# Altium integrated library National Semiconductor MiscPower.IntLib: 1552 symbols (part 25 of 43)
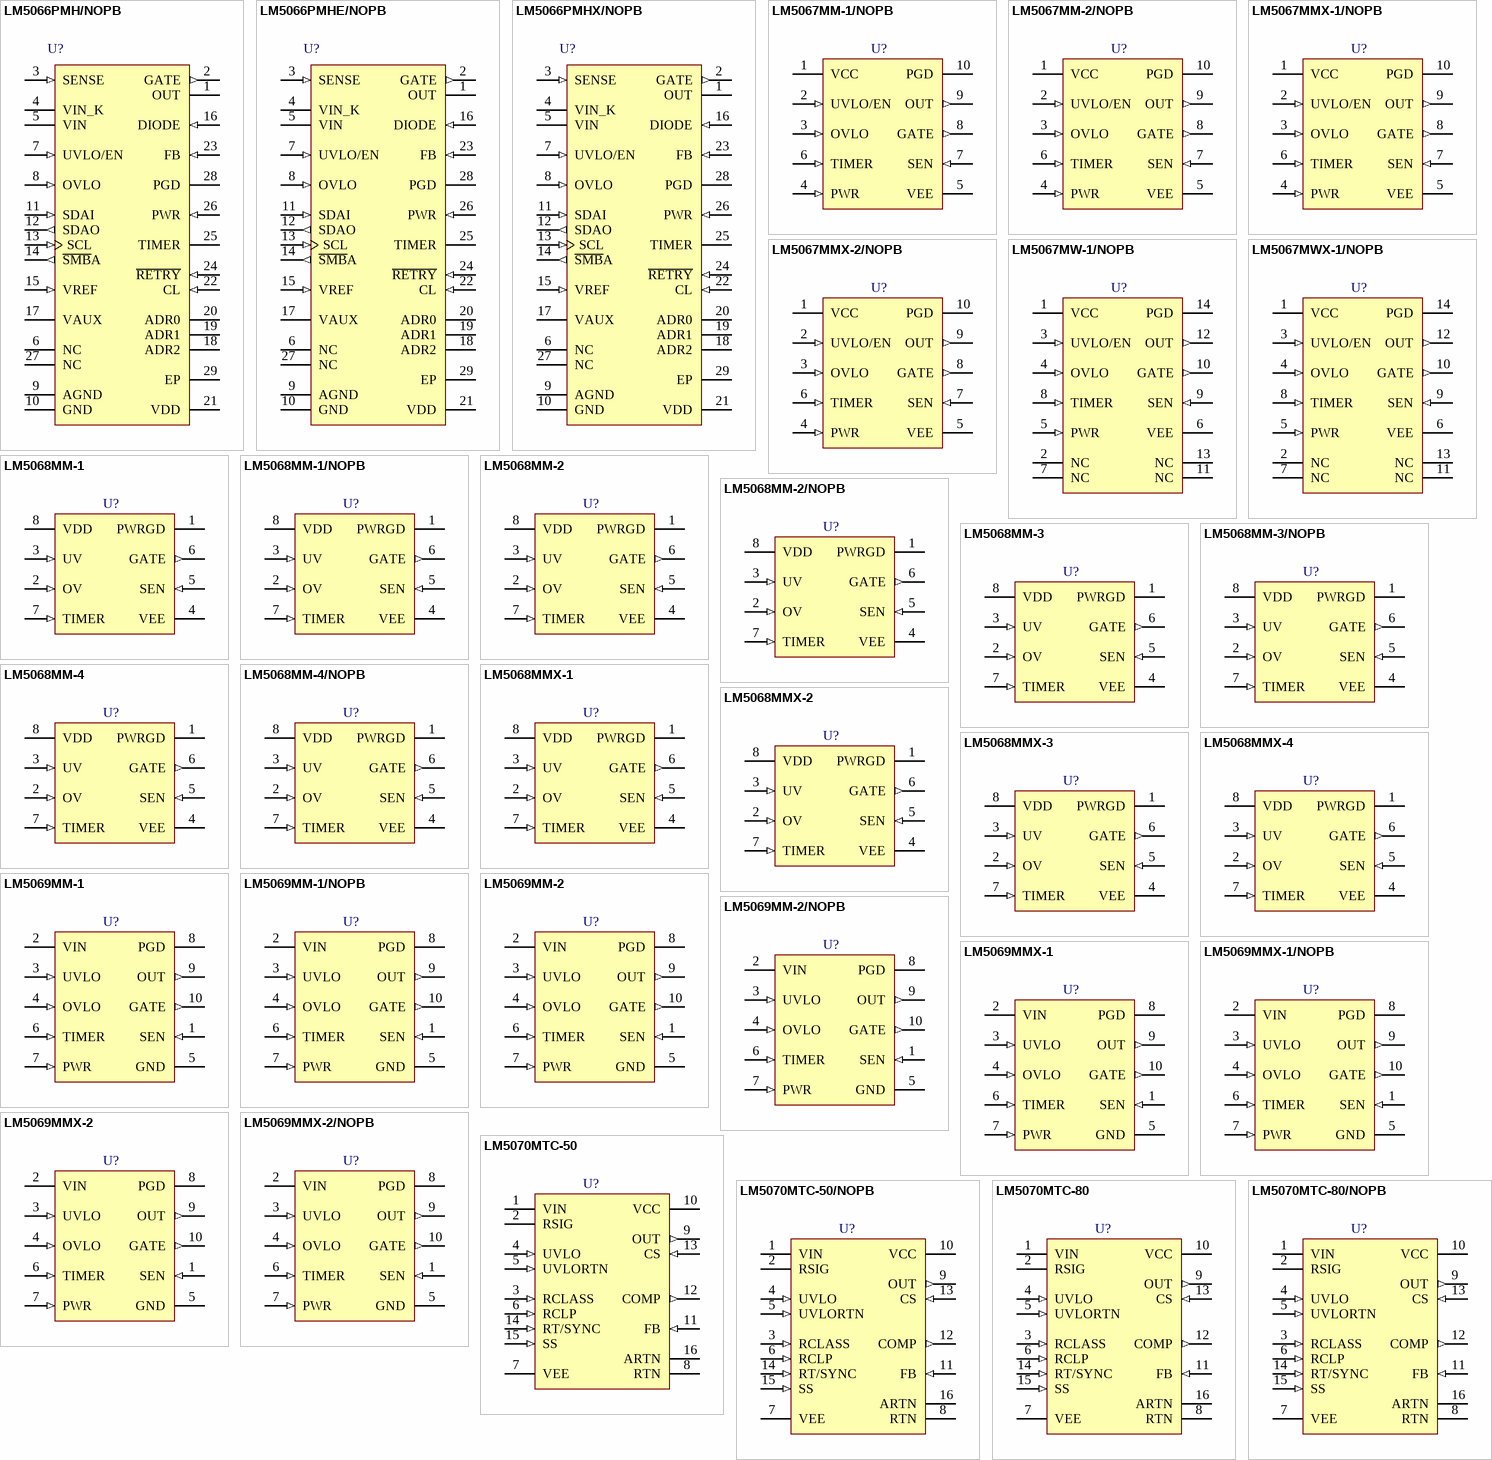
[diagram p81: symbols LM5066PMH/NOPB to LM5070MTC-80/NOPB]

## LM5069MM-2/NOPB
designator U?
Positive High Voltage Hot Swap / Inrush Current Controller with Power Limiting, 10-pin MSOP, Pb-Free; PartNumber: LM5069MM-2/NOPB; Manufacturer: National Semiconductor; PackageTopMarking: ZXTT*SNBB; PowerWise: N; CompType: MiscPower; High-Reliability: Y; DatasheetVersion: Mar-2008; PackageVersion: revB, Jul-2003; PackageReference: MUB10A; PackageDescription: Mini-SO, Molded, .118 x .118 x .034in Body, 10 Lead, .0197in Pitch; RoHS: Y; PinCount: 10; Code_JEDEC: MO-187-BA; ComponentLink1Description: Manufacturer URL; ComponentLink1URL: http://www.national.com/; ComponentLink2Description: LM5069 Datasheet; ComponentLink2URL: http://www.national.com/ds/LM/LM5069.pdf; ComponentLink3Description: LM5069 Web Page; ComponentLink3URL: http://www.national.com/pf/LM/LM5069.html; ComponentLink4Description: MUB10A Package Page; ComponentLink4URL: http://www.national.com/packaging/folders/mub10a.html
footprint MUB10A_N (TSSOP, 10-Leads, Body 3x3mm, Pitch 0.5mm, IPC Medium Density)
footprint MUB10A_L (TSSOP, 10-Leads, Body 3x3mm, Pitch 0.5mm, IPC High Density)
footprint MUB10A_M (TSSOP, 10-Leads, Body 3x3mm, Pitch 0.5mm, IPC Low Density)
pins: 1 SEN (in), 2 VIN (power), 3 UVLO (in), 4 OVLO (in), 5 GND (power), 6 TIMER (in), 7 PWR (in), 8 PGD (oc), 9 OUT (out), 10 GATE (out)

## LM5069MMX-1
designator U?
Positive High Voltage Hot Swap / Inrush Current Controller with Power Limiting, 10-pin MSOP; PartNumber: LM5069MMX-1; Manufacturer: National Semiconductor; PackageTopMarking: ZXTT*SNAB; PowerWise: N; CompType: MiscPower; High-Reliability: Y; DatasheetVersion: Mar-2008; PackageVersion: revB, Jul-2003; PackageReference: MUB10A; PackageDescription: Mini-SO, Molded, .118 x .118 x .034in Body, 10 Lead, .0197in Pitch; RoHS: N; PinCount: 10; Code_JEDEC: MO-187-BA; ComponentLink1Description: Manufacturer URL; ComponentLink1URL: http://www.national.com/; ComponentLink2Description: LM5069 Datasheet; ComponentLink2URL: http://www.national.com/ds/LM/LM5069.pdf; ComponentLink3Description: LM5069 Web Page; ComponentLink3URL: http://www.national.com/pf/LM/LM5069.html; ComponentLink4Description: MUB10A Package Page; ComponentLink4URL: http://www.national.com/packaging/folders/mub10a.html
footprint MUB10A_N (TSSOP, 10-Leads, Body 3x3mm, Pitch 0.5mm, IPC Medium Density)
footprint MUB10A_L (TSSOP, 10-Leads, Body 3x3mm, Pitch 0.5mm, IPC High Density)
footprint MUB10A_M (TSSOP, 10-Leads, Body 3x3mm, Pitch 0.5mm, IPC Low Density)
pins: 1 SEN (in), 2 VIN (power), 3 UVLO (in), 4 OVLO (in), 5 GND (power), 6 TIMER (in), 7 PWR (in), 8 PGD (oc), 9 OUT (out), 10 GATE (out)

## LM5069MMX-1/NOPB
designator U?
Positive High Voltage Hot Swap / Inrush Current Controller with Power Limiting, 10-pin MSOP, Pb-Free; PartNumber: LM5069MMX-1/NOPB; Manufacturer: National Semiconductor; PackageTopMarking: ZXTT*SNAB; PowerWise: N; CompType: MiscPower; High-Reliability: Y; DatasheetVersion: Mar-2008; PackageVersion: revB, Jul-2003; PackageReference: MUB10A; PackageDescription: Mini-SO, Molded, .118 x .118 x .034in Body, 10 Lead, .0197in Pitch; RoHS: Y; PinCount: 10; Code_JEDEC: MO-187-BA; ComponentLink1Description: Manufacturer URL; ComponentLink1URL: http://www.national.com/; ComponentLink2Description: LM5069 Datasheet; ComponentLink2URL: http://www.national.com/ds/LM/LM5069.pdf; ComponentLink3Description: LM5069 Web Page; ComponentLink3URL: http://www.national.com/pf/LM/LM5069.html; ComponentLink4Description: MUB10A Package Page; ComponentLink4URL: http://www.national.com/packaging/folders/mub10a.html
footprint MUB10A_N (TSSOP, 10-Leads, Body 3x3mm, Pitch 0.5mm, IPC Medium Density)
footprint MUB10A_L (TSSOP, 10-Leads, Body 3x3mm, Pitch 0.5mm, IPC High Density)
footprint MUB10A_M (TSSOP, 10-Leads, Body 3x3mm, Pitch 0.5mm, IPC Low Density)
pins: 1 SEN (in), 2 VIN (power), 3 UVLO (in), 4 OVLO (in), 5 GND (power), 6 TIMER (in), 7 PWR (in), 8 PGD (oc), 9 OUT (out), 10 GATE (out)

## LM5069MMX-2
designator U?
Positive High Voltage Hot Swap / Inrush Current Controller with Power Limiting, 10-pin MSOP; PartNumber: LM5069MMX-2; Manufacturer: National Semiconductor; PackageTopMarking: ZXTT*SNBB; PowerWise: N; CompType: MiscPower; High-Reliability: Y; DatasheetVersion: Mar-2008; PackageVersion: revB, Jul-2003; PackageReference: MUB10A; PackageDescription: Mini-SO, Molded, .118 x .118 x .034in Body, 10 Lead, .0197in Pitch; RoHS: N; PinCount: 10; Code_JEDEC: MO-187-BA; ComponentLink1Description: Manufacturer URL; ComponentLink1URL: http://www.national.com/; ComponentLink2Description: LM5069 Datasheet; ComponentLink2URL: http://www.national.com/ds/LM/LM5069.pdf; ComponentLink3Description: LM5069 Web Page; ComponentLink3URL: http://www.national.com/pf/LM/LM5069.html; ComponentLink4Description: MUB10A Package Page; ComponentLink4URL: http://www.national.com/packaging/folders/mub10a.html
footprint MUB10A_N (TSSOP, 10-Leads, Body 3x3mm, Pitch 0.5mm, IPC Medium Density)
footprint MUB10A_L (TSSOP, 10-Leads, Body 3x3mm, Pitch 0.5mm, IPC High Density)
footprint MUB10A_M (TSSOP, 10-Leads, Body 3x3mm, Pitch 0.5mm, IPC Low Density)
pins: 1 SEN (in), 2 VIN (power), 3 UVLO (in), 4 OVLO (in), 5 GND (power), 6 TIMER (in), 7 PWR (in), 8 PGD (oc), 9 OUT (out), 10 GATE (out)

## LM5069MMX-2/NOPB
designator U?
Positive High Voltage Hot Swap / Inrush Current Controller with Power Limiting, 10-pin MSOP, Pb-Free; PartNumber: LM5069MMX-2/NOPB; Manufacturer: National Semiconductor; PackageTopMarking: ZXTT*SNBB; PowerWise: N; CompType: MiscPower; High-Reliability: Y; DatasheetVersion: Mar-2008; PackageVersion: revB, Jul-2003; PackageReference: MUB10A; PackageDescription: Mini-SO, Molded, .118 x .118 x .034in Body, 10 Lead, .0197in Pitch; RoHS: Y; PinCount: 10; Code_JEDEC: MO-187-BA; ComponentLink1Description: Manufacturer URL; ComponentLink1URL: http://www.national.com/; ComponentLink2Description: LM5069 Datasheet; ComponentLink2URL: http://www.national.com/ds/LM/LM5069.pdf; ComponentLink3Description: LM5069 Web Page; ComponentLink3URL: http://www.national.com/pf/LM/LM5069.html; ComponentLink4Description: MUB10A Package Page; ComponentLink4URL: http://www.national.com/packaging/folders/mub10a.html
footprint MUB10A_N (TSSOP, 10-Leads, Body 3x3mm, Pitch 0.5mm, IPC Medium Density)
footprint MUB10A_L (TSSOP, 10-Leads, Body 3x3mm, Pitch 0.5mm, IPC High Density)
footprint MUB10A_M (TSSOP, 10-Leads, Body 3x3mm, Pitch 0.5mm, IPC Low Density)
pins: 1 SEN (in), 2 VIN (power), 3 UVLO (in), 4 OVLO (in), 5 GND (power), 6 TIMER (in), 7 PWR (in), 8 PGD (oc), 9 OUT (out), 10 GATE (out)

## LM5070MTC-50
designator U?
Integrated Power Over Ethernet PD Interface and PWM Controller, 16-pin TSSOP; PartNumber: LM5070MTC-50; Manufacturer: National Semiconductor; PackageTopMarking: NSUZXYTT*5070M*TC-50; PowerWise: Y; CompType: MiscPower; DatasheetVersion: Apr-2006; PackageVersion: revD, Jun-2003; PackageReference: MTC16; PackageDescription: Molded TSSOP, Jedec, 5 x 4.4 x 0.9mm Body, 16 Lead, 0.65mm Pitch; RoHS: N; PinCount: 16; High-Reliability: Y; Code_JEDEC: MO-153-AB; ComponentLink1Description: Manufacturer URL; ComponentLink1URL: http://www.national.com/; ComponentLink2Description: LM5070 Datasheet; ComponentLink2URL: http://www.national.com/ds/LM/LM5070.pdf; ComponentLink3Description: LM5070 Web Page; ComponentLink3URL: http://www.national.com/pf/LM/LM5070.html; ComponentLink4Description: MTC16 Package Page; ComponentLink4URL: http://www.national.com/packaging/folders/mtc16.html
footprint MTC16_N (TSOP, 16-Leads, Body 5x4.4mm, Pitch 0.65mm, IPC Medium Density)
footprint MTC16_L (TSOP, 16-Leads, Body 5x4.4mm, Pitch 0.65mm, IPC High Density)
footprint MTC16_M (TSOP, 16-Leads, Body 5x4.4mm, Pitch 0.65mm, IPC Low Density)
pins: 1 VIN (power) "System high potential input.", 2 RSIG "Signature resistor pin.", 3 RCLASS (in) "Classification resistor pin.", 4 UVLO (in) "Line under-voltage lockout.", 5 UVLORTN (in) "Return for the external UVLO resistors.", 6 RCLP (in) "Current limit programming pin.", 7 VEE (power) "System low potential input.", 8 RTN (power) "System return for the PWM converter.", 9 OUT (out) "Output of the PWM controller.", 10 VCC (power) "Output of the internal high voltage series pass regulator. Regulated output voltage is nominally 7.8V.", 11 FB (in) "Feedback signal.", 12 COMP (out) "The output of the error amplifier and input to the Pulse Width Modulator.", 13 CS (in) "Current sense input.", 14 RT/SYNC (in) "Oscillator timing resistor pin and synchronization input.", 15 SS (in) "Soft-start input.", 16 ARTN (power) "Analog PWM supply return."

## LM5070MTC-50/NOPB
designator U?
Integrated Power Over Ethernet PD Interface and PWM Controller, 16-pin TSSOP, Pb-Free; PartNumber: LM5070MTC-50/NOPB; Manufacturer: National Semiconductor; PackageTopMarking: NSUZXYTT*5070M*TC-50; PowerWise: Y; CompType: MiscPower; DatasheetVersion: Apr-2006; PackageVersion: revD, Jun-2003; PackageReference: MTC16; PackageDescription: Molded TSSOP, Jedec, 5 x 4.4 x 0.9mm Body, 16 Lead, 0.65mm Pitch; RoHS: Y; PinCount: 16; High-Reliability: Y; Code_JEDEC: MO-153-AB; ComponentLink1Description: Manufacturer URL; ComponentLink1URL: http://www.national.com/; ComponentLink2Description: LM5070 Datasheet; ComponentLink2URL: http://www.national.com/ds/LM/LM5070.pdf; ComponentLink3Description: LM5070 Web Page; ComponentLink3URL: http://www.national.com/pf/LM/LM5070.html; ComponentLink4Description: MTC16 Package Page; ComponentLink4URL: http://www.national.com/packaging/folders/mtc16.html
footprint MTC16_N (TSOP, 16-Leads, Body 5x4.4mm, Pitch 0.65mm, IPC Medium Density)
footprint MTC16_L (TSOP, 16-Leads, Body 5x4.4mm, Pitch 0.65mm, IPC High Density)
footprint MTC16_M (TSOP, 16-Leads, Body 5x4.4mm, Pitch 0.65mm, IPC Low Density)
pins: 1 VIN (power) "System high potential input.", 2 RSIG "Signature resistor pin.", 3 RCLASS (in) "Classification resistor pin.", 4 UVLO (in) "Line under-voltage lockout.", 5 UVLORTN (in) "Return for the external UVLO resistors.", 6 RCLP (in) "Current limit programming pin.", 7 VEE (power) "System low potential input.", 8 RTN (power) "System return for the PWM converter.", 9 OUT (out) "Output of the PWM controller.", 10 VCC (power) "Output of the internal high voltage series pass regulator. Regulated output voltage is nominally 7.8V.", 11 FB (in) "Feedback signal.", 12 COMP (out) "The output of the error amplifier and input to the Pulse Width Modulator.", 13 CS (in) "Current sense input.", 14 RT/SYNC (in) "Oscillator timing resistor pin and synchronization input.", 15 SS (in) "Soft-start input.", 16 ARTN (power) "Analog PWM supply return."

## LM5070MTC-80
designator U?
Integrated Power Over Ethernet PD Interface and PWM Controller, 16-pin TSSOP; PartNumber: LM5070MTC-80; Manufacturer: National Semiconductor; PackageTopMarking: NSUZXYTT*5070M*TC-80; PowerWise: Y; CompType: MiscPower; DatasheetVersion: Apr-2006; PackageVersion: revD, Jun-2003; PackageReference: MTC16; PackageDescription: Molded TSSOP, Jedec, 5 x 4.4 x 0.9mm Body, 16 Lead, 0.65mm Pitch; RoHS: N; PinCount: 16; High-Reliability: Y; Code_JEDEC: MO-153-AB; ComponentLink1Description: Manufacturer URL; ComponentLink1URL: http://www.national.com/; ComponentLink2Description: LM5070 Datasheet; ComponentLink2URL: http://www.national.com/ds/LM/LM5070.pdf; ComponentLink3Description: LM5070 Web Page; ComponentLink3URL: http://www.national.com/pf/LM/LM5070.html; ComponentLink4Description: MTC16 Package Page; ComponentLink4URL: http://www.national.com/packaging/folders/mtc16.html
footprint MTC16_N (TSOP, 16-Leads, Body 5x4.4mm, Pitch 0.65mm, IPC Medium Density)
footprint MTC16_L (TSOP, 16-Leads, Body 5x4.4mm, Pitch 0.65mm, IPC High Density)
footprint MTC16_M (TSOP, 16-Leads, Body 5x4.4mm, Pitch 0.65mm, IPC Low Density)
pins: 1 VIN (power) "System high potential input.", 2 RSIG "Signature resistor pin.", 3 RCLASS (in) "Classification resistor pin.", 4 UVLO (in) "Line under-voltage lockout.", 5 UVLORTN (in) "Return for the external UVLO resistors.", 6 RCLP (in) "Current limit programming pin.", 7 VEE (power) "System low potential input.", 8 RTN (power) "System return for the PWM converter.", 9 OUT (out) "Output of the PWM controller.", 10 VCC (power) "Output of the internal high voltage series pass regulator. Regulated output voltage is nominally 7.8V.", 11 FB (in) "Feedback signal.", 12 COMP (out) "The output of the error amplifier and input to the Pulse Width Modulator.", 13 CS (in) "Current sense input.", 14 RT/SYNC (in) "Oscillator timing resistor pin and synchronization input.", 15 SS (in) "Soft-start input.", 16 ARTN (power) "Analog PWM supply return."

## LM5070MTC-80/NOPB
designator U?
Integrated Power Over Ethernet PD Interface and PWM Controller, 16-pin TSSOP, Pb-Free; PartNumber: LM5070MTC-80/NOPB; Manufacturer: National Semiconductor; PackageTopMarking: NSUZXYTT*5070M*TC-80; PowerWise: Y; CompType: MiscPower; DatasheetVersion: Apr-2006; PackageVersion: revD, Jun-2003; PackageReference: MTC16; PackageDescription: Molded TSSOP, Jedec, 5 x 4.4 x 0.9mm Body, 16 Lead, 0.65mm Pitch; RoHS: Y; PinCount: 16; High-Reliability: Y; Code_JEDEC: MO-153-AB; ComponentLink1Description: Manufacturer URL; ComponentLink1URL: http://www.national.com/; ComponentLink2Description: LM5070 Datasheet; ComponentLink2URL: http://www.national.com/ds/LM/LM5070.pdf; ComponentLink3Description: LM5070 Web Page; ComponentLink3URL: http://www.national.com/pf/LM/LM5070.html; ComponentLink4Description: MTC16 Package Page; ComponentLink4URL: http://www.national.com/packaging/folders/mtc16.html
footprint MTC16_N (TSOP, 16-Leads, Body 5x4.4mm, Pitch 0.65mm, IPC Medium Density)
footprint MTC16_L (TSOP, 16-Leads, Body 5x4.4mm, Pitch 0.65mm, IPC High Density)
footprint MTC16_M (TSOP, 16-Leads, Body 5x4.4mm, Pitch 0.65mm, IPC Low Density)
pins: 1 VIN (power) "System high potential input.", 2 RSIG "Signature resistor pin.", 3 RCLASS (in) "Classification resistor pin.", 4 UVLO (in) "Line under-voltage lockout.", 5 UVLORTN (in) "Return for the external UVLO resistors.", 6 RCLP (in) "Current limit programming pin.", 7 VEE (power) "System low potential input.", 8 RTN (power) "System return for the PWM converter.", 9 OUT (out) "Output of the PWM controller.", 10 VCC (power) "Output of the internal high voltage series pass regulator. Regulated output voltage is nominally 7.8V.", 11 FB (in) "Feedback signal.", 12 COMP (out) "The output of the error amplifier and input to the Pulse Width Modulator.", 13 CS (in) "Current sense input.", 14 RT/SYNC (in) "Oscillator timing resistor pin and synchronization input.", 15 SS (in) "Soft-start input.", 16 ARTN (power) "Analog PWM supply return."

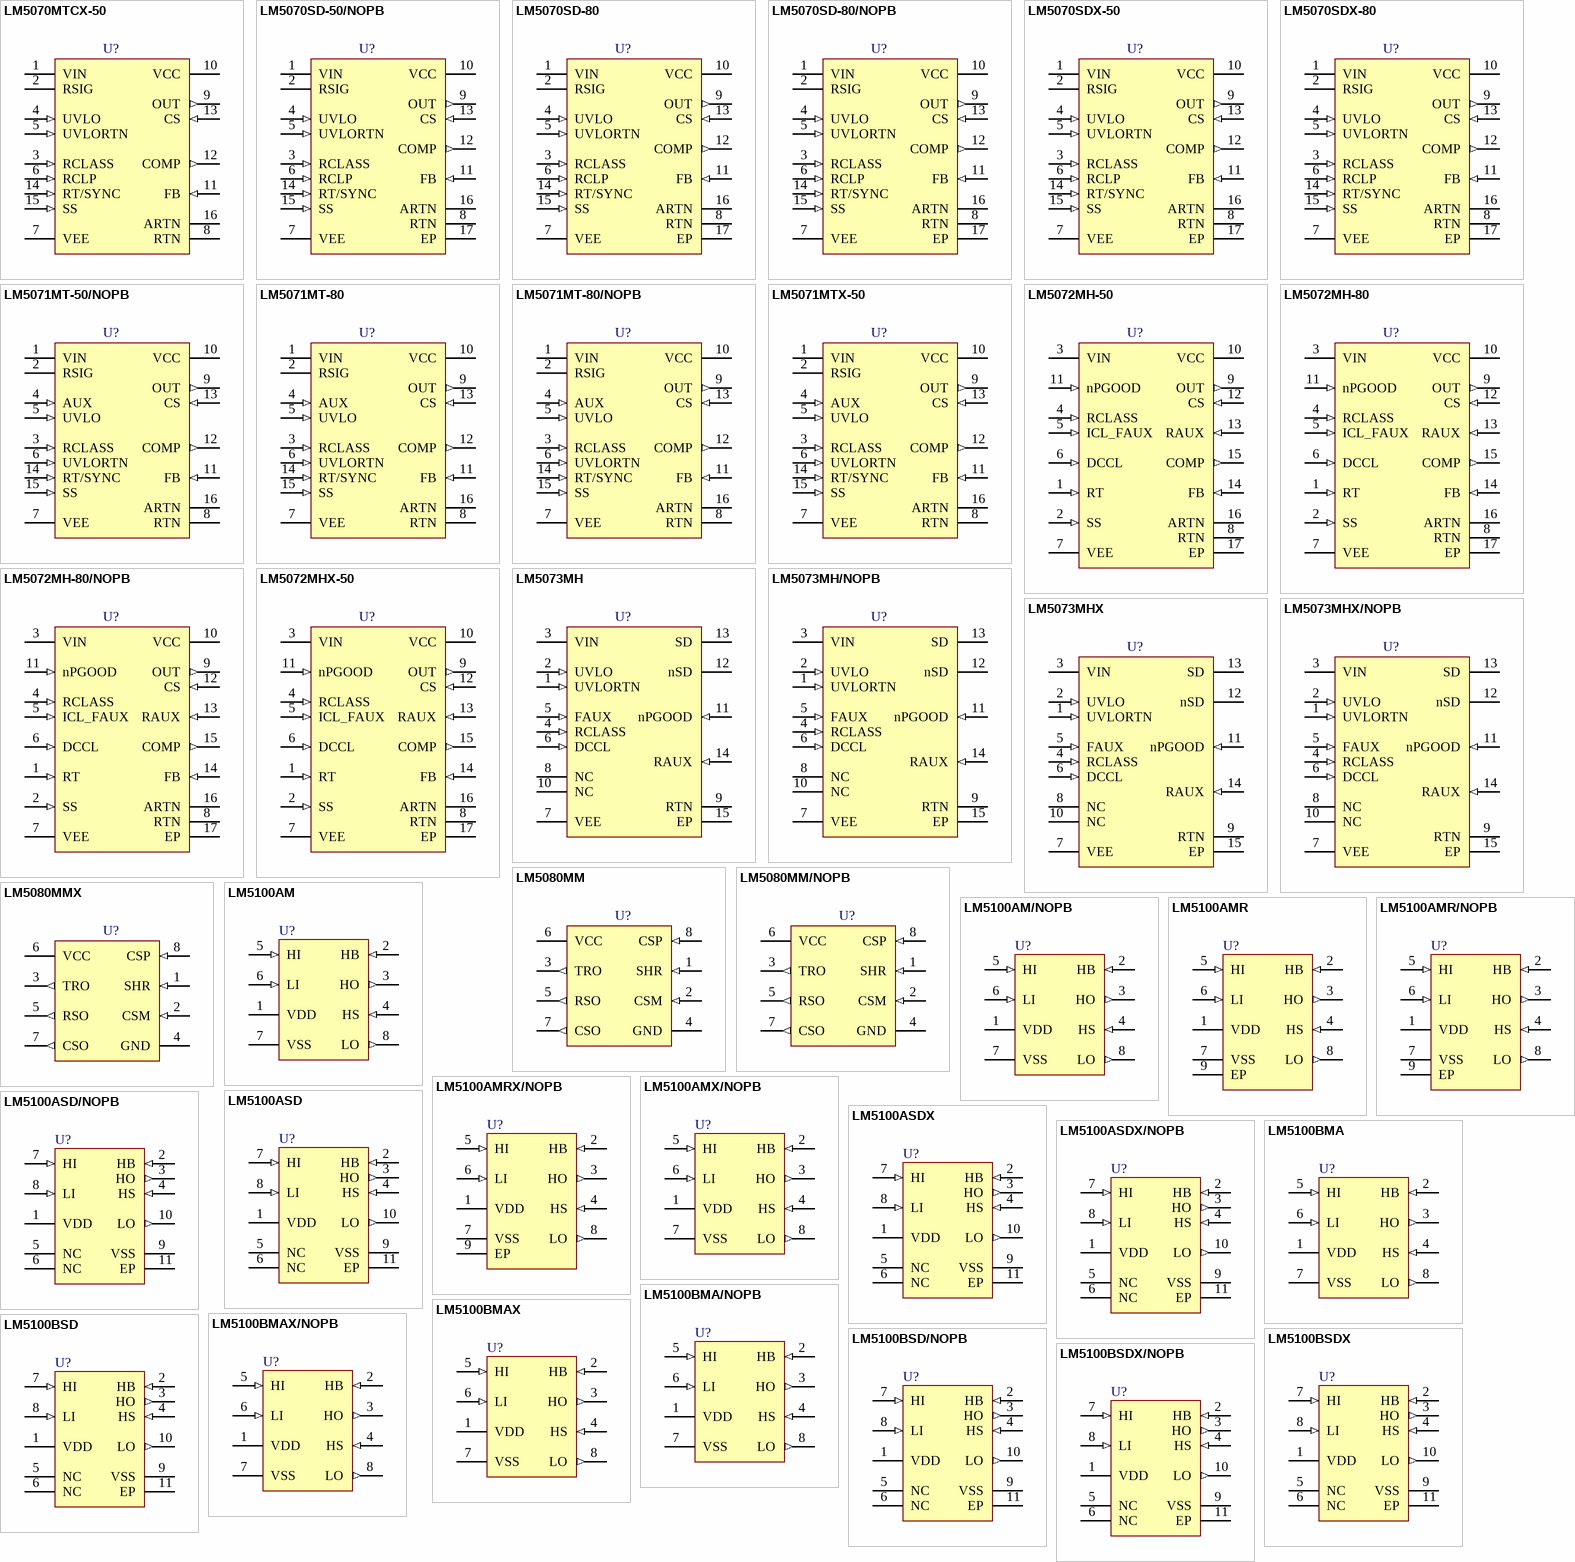
[diagram p28: symbols LM5070MTCX-50 to LM5100BSDX/NOPB]

## LM5070MTCX-50
designator U?
Integrated Power Over Ethernet PD Interface and PWM Controller, 16-pin TSSOP; PartNumber: LM5070MTCX-50; Manufacturer: National Semiconductor; PackageTopMarking: NSUZXYTT*5070M*TC-50; PowerWise: Y; CompType: MiscPower; DatasheetVersion: Apr-2006; PackageVersion: revD, Jun-2003; PackageReference: MTC16; PackageDescription: Molded TSSOP, Jedec, 5 x 4.4 x 0.9mm Body, 16 Lead, 0.65mm Pitch; RoHS: N; PinCount: 16; High-Reliability: Y; Code_JEDEC: MO-153-AB; ComponentLink1Description: Manufacturer URL; ComponentLink1URL: http://www.national.com/; ComponentLink2Description: LM5070 Datasheet; ComponentLink2URL: http://www.national.com/ds/LM/LM5070.pdf; ComponentLink3Description: LM5070 Web Page; ComponentLink3URL: http://www.national.com/pf/LM/LM5070.html; ComponentLink4Description: MTC16 Package Page; ComponentLink4URL: http://www.national.com/packaging/folders/mtc16.html
footprint MTC16_N (TSOP, 16-Leads, Body 5x4.4mm, Pitch 0.65mm, IPC Medium Density)
footprint MTC16_L (TSOP, 16-Leads, Body 5x4.4mm, Pitch 0.65mm, IPC High Density)
footprint MTC16_M (TSOP, 16-Leads, Body 5x4.4mm, Pitch 0.65mm, IPC Low Density)
pins: 1 VIN (power) "System high potential input.", 2 RSIG "Signature resistor pin.", 3 RCLASS (in) "Classification resistor pin.", 4 UVLO (in) "Line under-voltage lockout.", 5 UVLORTN (in) "Return for the external UVLO resistors.", 6 RCLP (in) "Current limit programming pin.", 7 VEE (power) "System low potential input.", 8 RTN (power) "System return for the PWM converter.", 9 OUT (out) "Output of the PWM controller.", 10 VCC (power) "Output of the internal high voltage series pass regulator. Regulated output voltage is nominally 7.8V.", 11 FB (in) "Feedback signal.", 12 COMP (out) "The output of the error amplifier and input to the Pulse Width Modulator.", 13 CS (in) "Current sense input.", 14 RT/SYNC (in) "Oscillator timing resistor pin and synchronization input.", 15 SS (in) "Soft-start input.", 16 ARTN (power) "Analog PWM supply return."

## LM5070SD-50/NOPB
designator U?
Integrated Power Over Ethernet PD Interface and PWM Controller, 16-pin LLP, Pb-Free; PartNumber: LM5070SD-50/NOPB; Manufacturer: National Semiconductor; PackageTopMarking: NS*UZXYTT*L00051B; PowerWise: Y; CompType: MiscPower; DatasheetVersion: Apr-2006; PackageVersion: revA, May-2003; PackageReference: SDA16A; PackageDescription: LLP, Plastic, Dual, 5 x 5 x 0.8mm Body,16 Lead, 0.5mm Pitch, No Pullback; RoHS: Y; PinCount: 16; High-Reliability: Y; ComponentLink1Description: Manufacturer URL; ComponentLink1URL: http://www.national.com/; ComponentLink2Description: LM5070 Datasheet; ComponentLink2URL: http://www.national.com/ds/LM/LM5070.pdf; ComponentLink3Description: LM5070 Web Page; ComponentLink3URL: http://www.national.com/pf/LM/LM5070.html; ComponentLink4Description: SDA16A Package Page; ComponentLink4URL: http://www.national.com/packaging/folders/sda16a.html
footprint SDA16A (SON, 16-Leads, Body 5x5mm, Pitch 0.5mm, NSC Recommended)
pins: 1 VIN (power) "System high potential input.", 2 RSIG "Signature resistor pin.", 3 RCLASS (in) "Classification resistor pin.", 4 UVLO (in) "Line under-voltage lockout.", 5 UVLORTN (in) "Return for the external UVLO resistors.", 6 RCLP (in) "Current limit programming pin.", 7 VEE (power) "System low potential input.", 8 RTN (power) "System return for the PWM converter.", 9 OUT (out) "Output of the PWM controller.", 10 VCC (power) "Output of the internal high voltage series pass regulator. Regulated output voltage is nominally 7.8V.", 11 FB (in) "Feedback signal.", 12 COMP (out) "The output of the error amplifier and input to the Pulse Width Modulator.", 13 CS (in) "Current sense input.", 14 RT/SYNC (in) "Oscillator timing resistor pin and synchronization input.", 15 SS (in) "Soft-start input.", 16 ARTN (power) "Analog PWM supply return.", 17 EP (power) "Exposed PAD, underside of the LLP package option."

## LM5070SD-80
designator U?
Integrated Power Over Ethernet PD Interface and PWM Controller, 16-pin LLP; PartNumber: LM5070SD-80; Manufacturer: National Semiconductor; PackageTopMarking: NS*UZXYTT*L00052B; PowerWise: Y; CompType: MiscPower; DatasheetVersion: Apr-2006; PackageVersion: revA, May-2003; PackageReference: SDA16A; PackageDescription: LLP, Plastic, Dual, 5 x 5 x 0.8mm Body,16 Lead, 0.5mm Pitch, No Pullback; RoHS: N; PinCount: 16; High-Reliability: Y; ComponentLink1Description: Manufacturer URL; ComponentLink1URL: http://www.national.com/; ComponentLink2Description: LM5070 Datasheet; ComponentLink2URL: http://www.national.com/ds/LM/LM5070.pdf; ComponentLink3Description: LM5070 Web Page; ComponentLink3URL: http://www.national.com/pf/LM/LM5070.html; ComponentLink4Description: SDA16A Package Page; ComponentLink4URL: http://www.national.com/packaging/folders/sda16a.html
footprint SDA16A (SON, 16-Leads, Body 5x5mm, Pitch 0.5mm, NSC Recommended)
pins: 1 VIN (power) "System high potential input.", 2 RSIG "Signature resistor pin.", 3 RCLASS (in) "Classification resistor pin.", 4 UVLO (in) "Line under-voltage lockout.", 5 UVLORTN (in) "Return for the external UVLO resistors.", 6 RCLP (in) "Current limit programming pin.", 7 VEE (power) "System low potential input.", 8 RTN (power) "System return for the PWM converter.", 9 OUT (out) "Output of the PWM controller.", 10 VCC (power) "Output of the internal high voltage series pass regulator. Regulated output voltage is nominally 7.8V.", 11 FB (in) "Feedback signal.", 12 COMP (out) "The output of the error amplifier and input to the Pulse Width Modulator.", 13 CS (in) "Current sense input.", 14 RT/SYNC (in) "Oscillator timing resistor pin and synchronization input.", 15 SS (in) "Soft-start input.", 16 ARTN (power) "Analog PWM supply return.", 17 EP (power) "Exposed PAD, underside of the LLP package option."

## LM5070SD-80/NOPB
designator U?
Integrated Power Over Ethernet PD Interface and PWM Controller, 16-pin LLP, Pb-Free; PartNumber: LM5070SD-80/NOPB; Manufacturer: National Semiconductor; PackageTopMarking: NS*UZXYTT*L00052B; PowerWise: Y; CompType: MiscPower; DatasheetVersion: Apr-2006; PackageVersion: revA, May-2003; PackageReference: SDA16A; PackageDescription: LLP, Plastic, Dual, 5 x 5 x 0.8mm Body,16 Lead, 0.5mm Pitch, No Pullback; RoHS: Y; PinCount: 16; High-Reliability: Y; ComponentLink1Description: Manufacturer URL; ComponentLink1URL: http://www.national.com/; ComponentLink2Description: LM5070 Datasheet; ComponentLink2URL: http://www.national.com/ds/LM/LM5070.pdf; ComponentLink3Description: LM5070 Web Page; ComponentLink3URL: http://www.national.com/pf/LM/LM5070.html; ComponentLink4Description: SDA16A Package Page; ComponentLink4URL: http://www.national.com/packaging/folders/sda16a.html
footprint SDA16A (SON, 16-Leads, Body 5x5mm, Pitch 0.5mm, NSC Recommended)
pins: 1 VIN (power) "System high potential input.", 2 RSIG "Signature resistor pin.", 3 RCLASS (in) "Classification resistor pin.", 4 UVLO (in) "Line under-voltage lockout.", 5 UVLORTN (in) "Return for the external UVLO resistors.", 6 RCLP (in) "Current limit programming pin.", 7 VEE (power) "System low potential input.", 8 RTN (power) "System return for the PWM converter.", 9 OUT (out) "Output of the PWM controller.", 10 VCC (power) "Output of the internal high voltage series pass regulator. Regulated output voltage is nominally 7.8V.", 11 FB (in) "Feedback signal.", 12 COMP (out) "The output of the error amplifier and input to the Pulse Width Modulator.", 13 CS (in) "Current sense input.", 14 RT/SYNC (in) "Oscillator timing resistor pin and synchronization input.", 15 SS (in) "Soft-start input.", 16 ARTN (power) "Analog PWM supply return.", 17 EP (power) "Exposed PAD, underside of the LLP package option."

## LM5070SDX-50
designator U?
Integrated Power Over Ethernet PD Interface and PWM Controller, 16-pin LLP; PartNumber: LM5070SDX-50; Manufacturer: National Semiconductor; PackageTopMarking: NS*UZXYTT*L00051B; PowerWise: Y; CompType: MiscPower; DatasheetVersion: Apr-2006; PackageVersion: revA, May-2003; PackageReference: SDA16A; PackageDescription: LLP, Plastic, Dual, 5 x 5 x 0.8mm Body,16 Lead, 0.5mm Pitch, No Pullback; RoHS: N; PinCount: 16; High-Reliability: Y; ComponentLink1Description: Manufacturer URL; ComponentLink1URL: http://www.national.com/; ComponentLink2Description: LM5070 Datasheet; ComponentLink2URL: http://www.national.com/ds/LM/LM5070.pdf; ComponentLink3Description: LM5070 Web Page; ComponentLink3URL: http://www.national.com/pf/LM/LM5070.html; ComponentLink4Description: SDA16A Package Page; ComponentLink4URL: http://www.national.com/packaging/folders/sda16a.html
footprint SDA16A (SON, 16-Leads, Body 5x5mm, Pitch 0.5mm, NSC Recommended)
pins: 1 VIN (power) "System high potential input.", 2 RSIG "Signature resistor pin.", 3 RCLASS (in) "Classification resistor pin.", 4 UVLO (in) "Line under-voltage lockout.", 5 UVLORTN (in) "Return for the external UVLO resistors.", 6 RCLP (in) "Current limit programming pin.", 7 VEE (power) "System low potential input.", 8 RTN (power) "System return for the PWM converter.", 9 OUT (out) "Output of the PWM controller.", 10 VCC (power) "Output of the internal high voltage series pass regulator. Regulated output voltage is nominally 7.8V.", 11 FB (in) "Feedback signal.", 12 COMP (out) "The output of the error amplifier and input to the Pulse Width Modulator.", 13 CS (in) "Current sense input.", 14 RT/SYNC (in) "Oscillator timing resistor pin and synchronization input.", 15 SS (in) "Soft-start input.", 16 ARTN (power) "Analog PWM supply return.", 17 EP (power) "Exposed PAD, underside of the LLP package option."

## LM5070SDX-80
designator U?
Integrated Power Over Ethernet PD Interface and PWM Controller, 16-pin LLP; PartNumber: LM5070SDX-80; Manufacturer: National Semiconductor; PackageTopMarking: NS*UZXYTT*L00052B; PowerWise: Y; CompType: MiscPower; DatasheetVersion: Apr-2006; PackageVersion: revA, May-2003; PackageReference: SDA16A; PackageDescription: LLP, Plastic, Dual, 5 x 5 x 0.8mm Body,16 Lead, 0.5mm Pitch, No Pullback; RoHS: N; PinCount: 16; High-Reliability: Y; ComponentLink1Description: Manufacturer URL; ComponentLink1URL: http://www.national.com/; ComponentLink2Description: LM5070 Datasheet; ComponentLink2URL: http://www.national.com/ds/LM/LM5070.pdf; ComponentLink3Description: LM5070 Web Page; ComponentLink3URL: http://www.national.com/pf/LM/LM5070.html; ComponentLink4Description: SDA16A Package Page; ComponentLink4URL: http://www.national.com/packaging/folders/sda16a.html
footprint SDA16A (SON, 16-Leads, Body 5x5mm, Pitch 0.5mm, NSC Recommended)
pins: 1 VIN (power) "System high potential input.", 2 RSIG "Signature resistor pin.", 3 RCLASS (in) "Classification resistor pin.", 4 UVLO (in) "Line under-voltage lockout.", 5 UVLORTN (in) "Return for the external UVLO resistors.", 6 RCLP (in) "Current limit programming pin.", 7 VEE (power) "System low potential input.", 8 RTN (power) "System return for the PWM converter.", 9 OUT (out) "Output of the PWM controller.", 10 VCC (power) "Output of the internal high voltage series pass regulator. Regulated output voltage is nominally 7.8V.", 11 FB (in) "Feedback signal.", 12 COMP (out) "The output of the error amplifier and input to the Pulse Width Modulator.", 13 CS (in) "Current sense input.", 14 RT/SYNC (in) "Oscillator timing resistor pin and synchronization input.", 15 SS (in) "Soft-start input.", 16 ARTN (power) "Analog PWM supply return.", 17 EP (power) "Exposed PAD, underside of the LLP package option."

## LM5071MT-50/NOPB
designator U?
Power Over Ethernet PD Controller with Auxiliary Power Interface, 16-pin TSSOP, Pb-Free; PartNumber: LM5071MT-50/NOPB; Manufacturer: National Semiconductor; PackageTopMarking: NSUZXYTT*5071MT*-50; PowerWise: Y; CompType: MiscPower; DatasheetVersion: Apr-2006; PackageVersion: revD, Jun-2003; PackageReference: MTC16; PackageDescription: Molded TSSOP, Jedec, 5 x 4.4 x 0.9mm Body, 16 Lead, 0.65mm Pitch; RoHS: Y; PinCount: 16; High-Reliability: Y; Code_JEDEC: MO-153-AB; ComponentLink1Description: Manufacturer URL; ComponentLink1URL: http://www.national.com/; ComponentLink2Description: LM5071 Datasheet; ComponentLink2URL: http://www.national.com/ds/LM/LM5071.pdf; ComponentLink3Description: LM5071 Web Page; ComponentLink3URL: http://www.national.com/pf/LM/LM5071.html; ComponentLink4Description: MTC16 Package Page; ComponentLink4URL: http://www.national.com/packaging/folders/mtc16.html
footprint MTC16_N (TSOP, 16-Leads, Body 5x4.4mm, Pitch 0.65mm, IPC Medium Density)
footprint MTC16_L (TSOP, 16-Leads, Body 5x4.4mm, Pitch 0.65mm, IPC High Density)
footprint MTC16_M (TSOP, 16-Leads, Body 5x4.4mm, Pitch 0.65mm, IPC Low Density)
pins: 1 VIN (power) "System high potential input.", 2 RSIG "Signature resistor pin.", 3 RCLASS (in) "Classification resistor pin.", 4 AUX (in) "Auxiliary input power startup pin.", 5 UVLO (in) "Line under-voltage lockout.", 6 UVLORTN (in) "Return for the external UVLO resistors.", 7 VEE (power) "System low potential input.", 8 RTN (power) "System return for the PWM converter.", 9 OUT (out) "Output of the PWM controller.", 10 VCC (power) "Output of the internal high voltage series pass regulator. Regulated output voltage is nominally 7.8V.", 11 FB (in) "Feedback signal.", 12 COMP (out) "The output of the error amplifier and input to the Pulse Width Modulator.", 13 CS (in) "Current sense input.", 14 RT/SYNC (in) "Oscillator timing resistor pin and synchronization input.", 15 SS (in) "Soft-start input.", 16 ARTN (power) "Analog PWM supply return."

## LM5071MT-80
designator U?
Power Over Ethernet PD Controller with Auxiliary Power Interface, 16-pin TSSOP; PartNumber: LM5071MT-80; Manufacturer: National Semiconductor; PackageTopMarking: NSUZXYTT*5071MT*-80; PowerWise: Y; CompType: MiscPower; DatasheetVersion: Apr-2006; PackageVersion: revD, Jun-2003; PackageReference: MTC16; PackageDescription: Molded TSSOP, Jedec, 5 x 4.4 x 0.9mm Body, 16 Lead, 0.65mm Pitch; RoHS: N; PinCount: 16; High-Reliability: Y; Code_JEDEC: MO-153-AB; ComponentLink1Description: Manufacturer URL; ComponentLink1URL: http://www.national.com/; ComponentLink2Description: LM5071 Datasheet; ComponentLink2URL: http://www.national.com/ds/LM/LM5071.pdf; ComponentLink3Description: LM5071 Web Page; ComponentLink3URL: http://www.national.com/pf/LM/LM5071.html; ComponentLink4Description: MTC16 Package Page; ComponentLink4URL: http://www.national.com/packaging/folders/mtc16.html
footprint MTC16_N (TSOP, 16-Leads, Body 5x4.4mm, Pitch 0.65mm, IPC Medium Density)
footprint MTC16_L (TSOP, 16-Leads, Body 5x4.4mm, Pitch 0.65mm, IPC High Density)
footprint MTC16_M (TSOP, 16-Leads, Body 5x4.4mm, Pitch 0.65mm, IPC Low Density)
pins: 1 VIN (power) "System high potential input.", 2 RSIG "Signature resistor pin.", 3 RCLASS (in) "Classification resistor pin.", 4 AUX (in) "Auxiliary input power startup pin.", 5 UVLO (in) "Line under-voltage lockout.", 6 UVLORTN (in) "Return for the external UVLO resistors.", 7 VEE (power) "System low potential input.", 8 RTN (power) "System return for the PWM converter.", 9 OUT (out) "Output of the PWM controller.", 10 VCC (power) "Output of the internal high voltage series pass regulator. Regulated output voltage is nominally 7.8V.", 11 FB (in) "Feedback signal.", 12 COMP (out) "The output of the error amplifier and input to the Pulse Width Modulator.", 13 CS (in) "Current sense input.", 14 RT/SYNC (in) "Oscillator timing resistor pin and synchronization input.", 15 SS (in) "Soft-start input.", 16 ARTN (power) "Analog PWM supply return."

## LM5071MT-80/NOPB
designator U?
Power Over Ethernet PD Controller with Auxiliary Power Interface, 16-pin TSSOP, Pb-Free; PartNumber: LM5071MT-80/NOPB; Manufacturer: National Semiconductor; PackageTopMarking: NSUZXYTT*5071MT*-80; PowerWise: Y; CompType: MiscPower; DatasheetVersion: Apr-2006; PackageVersion: revD, Jun-2003; PackageReference: MTC16; PackageDescription: Molded TSSOP, Jedec, 5 x 4.4 x 0.9mm Body, 16 Lead, 0.65mm Pitch; RoHS: Y; PinCount: 16; High-Reliability: Y; Code_JEDEC: MO-153-AB; ComponentLink1Description: Manufacturer URL; ComponentLink1URL: http://www.national.com/; ComponentLink2Description: LM5071 Datasheet; ComponentLink2URL: http://www.national.com/ds/LM/LM5071.pdf; ComponentLink3Description: LM5071 Web Page; ComponentLink3URL: http://www.national.com/pf/LM/LM5071.html; ComponentLink4Description: MTC16 Package Page; ComponentLink4URL: http://www.national.com/packaging/folders/mtc16.html
footprint MTC16_N (TSOP, 16-Leads, Body 5x4.4mm, Pitch 0.65mm, IPC Medium Density)
footprint MTC16_L (TSOP, 16-Leads, Body 5x4.4mm, Pitch 0.65mm, IPC High Density)
footprint MTC16_M (TSOP, 16-Leads, Body 5x4.4mm, Pitch 0.65mm, IPC Low Density)
pins: 1 VIN (power) "System high potential input.", 2 RSIG "Signature resistor pin.", 3 RCLASS (in) "Classification resistor pin.", 4 AUX (in) "Auxiliary input power startup pin.", 5 UVLO (in) "Line under-voltage lockout.", 6 UVLORTN (in) "Return for the external UVLO resistors.", 7 VEE (power) "System low potential input.", 8 RTN (power) "System return for the PWM converter.", 9 OUT (out) "Output of the PWM controller.", 10 VCC (power) "Output of the internal high voltage series pass regulator. Regulated output voltage is nominally 7.8V.", 11 FB (in) "Feedback signal.", 12 COMP (out) "The output of the error amplifier and input to the Pulse Width Modulator.", 13 CS (in) "Current sense input.", 14 RT/SYNC (in) "Oscillator timing resistor pin and synchronization input.", 15 SS (in) "Soft-start input.", 16 ARTN (power) "Analog PWM supply return."

## LM5071MTX-50
designator U?
Power Over Ethernet PD Controller with Auxiliary Power Interface, 16-pin TSSOP; PartNumber: LM5071MTX-50; Manufacturer: National Semiconductor; PackageTopMarking: NSUZXYTT*5071MT*-50; PowerWise: Y; CompType: MiscPower; DatasheetVersion: Apr-2006; PackageVersion: revD, Jun-2003; PackageReference: MTC16; PackageDescription: Molded TSSOP, Jedec, 5 x 4.4 x 0.9mm Body, 16 Lead, 0.65mm Pitch; RoHS: N; PinCount: 16; High-Reliability: Y; Code_JEDEC: MO-153-AB; ComponentLink1Description: Manufacturer URL; ComponentLink1URL: http://www.national.com/; ComponentLink2Description: LM5071 Datasheet; ComponentLink2URL: http://www.national.com/ds/LM/LM5071.pdf; ComponentLink3Description: LM5071 Web Page; ComponentLink3URL: http://www.national.com/pf/LM/LM5071.html; ComponentLink4Description: MTC16 Package Page; ComponentLink4URL: http://www.national.com/packaging/folders/mtc16.html
footprint MTC16_N (TSOP, 16-Leads, Body 5x4.4mm, Pitch 0.65mm, IPC Medium Density)
footprint MTC16_L (TSOP, 16-Leads, Body 5x4.4mm, Pitch 0.65mm, IPC High Density)
footprint MTC16_M (TSOP, 16-Leads, Body 5x4.4mm, Pitch 0.65mm, IPC Low Density)
pins: 1 VIN (power) "System high potential input.", 2 RSIG "Signature resistor pin.", 3 RCLASS (in) "Classification resistor pin.", 4 AUX (in) "Auxiliary input power startup pin.", 5 UVLO (in) "Line under-voltage lockout.", 6 UVLORTN (in) "Return for the external UVLO resistors.", 7 VEE (power) "System low potential input.", 8 RTN (power) "System return for the PWM converter.", 9 OUT (out) "Output of the PWM controller.", 10 VCC (power) "Output of the internal high voltage series pass regulator. Regulated output voltage is nominally 7.8V.", 11 FB (in) "Feedback signal.", 12 COMP (out) "The output of the error amplifier and input to the Pulse Width Modulator.", 13 CS (in) "Current sense input.", 14 RT/SYNC (in) "Oscillator timing resistor pin and synchronization input.", 15 SS (in) "Soft-start input.", 16 ARTN (power) "Analog PWM supply return."

## LM5072MH-50
designator U?
Integrated 100V Power Over Ethernet PD Interface and PWM Controller with Aux Support, 16-pin TSSOP-EP; PartNumber: LM5072MH-50; Manufacturer: National Semiconductor; PackageTopMarking: NSUZXYTT*LM5072*MH-50; PowerWise: Y; CompType: MiscPower; DatasheetVersion: Oct-2007; PackageVersion: revA, Apr-2003; PackageReference: MXA16A; PackageDescription: Molded TSSOP, Jedec, Exposed Pad, 5.0 x 4.4 x 0.9mm Body,16 Lead, 0.65mm Pitch; RoHS: N; PinCount: 16; High-Reliability: Y; Code_JEDEC: MO-153-ABT; ComponentLink1Description: Manufacturer URL; ComponentLink1URL: http://www.national.com/; ComponentLink2Description: LM5072 Datasheet; ComponentLink2URL: http://www.national.com/ds/LM/LM5072.pdf; ComponentLink3Description: LM5072 Web Page; ComponentLink3URL: http://www.national.com/pf/LM/LM5072.html; ComponentLink4Description: MXA16A Package Page; ComponentLink4URL: http://www.national.com/packaging/folders/mxa16a.html
footprint MXA16A_N (TSOP, 16-Leads, Body 5x4.4mm, Pitch 0.65mm, Thermal Pad, IPC Medium Density)
footprint MXA16A_L (TSOP, 16-Leads, Body 5x4.4mm, Pitch 0.65mm, Thermal Pad, IPC High Density)
footprint MXA16A_M (TSOP, 16-Leads, Body 5x4.4mm, Pitch 0.65mm, Thermal Pad, IPC Low Density)
pins: 1 RT (in) "PWM controller oscillator frequency programming pin.", 2 SS (in) "Soft-start programming pin.", 3 VIN (power) "Positive supply pin for the PD interface and the internal PWM controller start-up regulator.", 4 RCLASS (in) "PD classification programming pin.", 5 ICL_FAUX (in) "Inrush current limit programming pin; also the front auxiliary power enable pin.", 6 DCCL (in) "PD interface DC current limit programming pin.", 7 VEE (power) "Negative supply pin for PD interface; connected to PoE and/or front auxiliary power return path.", 8 RTN (power) "PWM controller power return.", 9 OUT (out) "PWM controller gate driver output pin.", 10 VCC (power) "PWM controller start-up regulator output pin.", 11 nPGOOD (in) "PD interface Power Good indicator and delay timer pin; active low state indicates PoE interface is in normal operation.", 12 CS (in) "PWM controller current sense input pin.", 13 RAUX (in) "Rear auxiliary power enable pin; can be programmed for auxiliary power dominance over PoE power.", 14 FB (in) "PWM controller voltage feedback pin and inverting input of the internal error amplifier.", 15 COMP (out) "Output of the internal error amplifier and control input to the PWM comparator.", 16 ARTN (power) "PWM controller reference ground pin.", 17 EP (power) "Exposed metal pad on the underside of the device."

## LM5072MH-80
designator U?
Integrated 100V Power Over Ethernet PD Interface and PWM Controller with Aux Support, 16-pin TSSOP-EP; PartNumber: LM5072MH-80; Manufacturer: National Semiconductor; PackageTopMarking: NSUZXYTT*LM5072*MH-80; PowerWise: Y; CompType: MiscPower; DatasheetVersion: Oct-2007; PackageVersion: revA, Apr-2003; PackageReference: MXA16A; PackageDescription: Molded TSSOP, Jedec, Exposed Pad, 5.0 x 4.4 x 0.9mm Body,16 Lead, 0.65mm Pitch; RoHS: N; PinCount: 16; High-Reliability: Y; Code_JEDEC: MO-153-ABT; ComponentLink1Description: Manufacturer URL; ComponentLink1URL: http://www.national.com/; ComponentLink2Description: LM5072 Datasheet; ComponentLink2URL: http://www.national.com/ds/LM/LM5072.pdf; ComponentLink3Description: LM5072 Web Page; ComponentLink3URL: http://www.national.com/pf/LM/LM5072.html; ComponentLink4Description: MXA16A Package Page; ComponentLink4URL: http://www.national.com/packaging/folders/mxa16a.html
footprint MXA16A_N (TSOP, 16-Leads, Body 5x4.4mm, Pitch 0.65mm, Thermal Pad, IPC Medium Density)
footprint MXA16A_L (TSOP, 16-Leads, Body 5x4.4mm, Pitch 0.65mm, Thermal Pad, IPC High Density)
footprint MXA16A_M (TSOP, 16-Leads, Body 5x4.4mm, Pitch 0.65mm, Thermal Pad, IPC Low Density)
pins: 1 RT (in) "PWM controller oscillator frequency programming pin.", 2 SS (in) "Soft-start programming pin.", 3 VIN (power) "Positive supply pin for the PD interface and the internal PWM controller start-up regulator.", 4 RCLASS (in) "PD classification programming pin.", 5 ICL_FAUX (in) "Inrush current limit programming pin; also the front auxiliary power enable pin.", 6 DCCL (in) "PD interface DC current limit programming pin.", 7 VEE (power) "Negative supply pin for PD interface; connected to PoE and/or front auxiliary power return path.", 8 RTN (power) "PWM controller power return.", 9 OUT (out) "PWM controller gate driver output pin.", 10 VCC (power) "PWM controller start-up regulator output pin.", 11 nPGOOD (in) "PD interface Power Good indicator and delay timer pin; active low state indicates PoE interface is in normal operation.", 12 CS (in) "PWM controller current sense input pin.", 13 RAUX (in) "Rear auxiliary power enable pin; can be programmed for auxiliary power dominance over PoE power.", 14 FB (in) "PWM controller voltage feedback pin and inverting input of the internal error amplifier.", 15 COMP (out) "Output of the internal error amplifier and control input to the PWM comparator.", 16 ARTN (power) "PWM controller reference ground pin.", 17 EP (power) "Exposed metal pad on the underside of the device."

## LM5072MH-80/NOPB
designator U?
Integrated 100V Power Over Ethernet PD Interface and PWM Controller with Aux Support, 16-pin TSSOP-EP, 92 Rail; PartNumber: LM5072MH-80/NOPB; Manufacturer: National Semiconductor; PackageTopMarking: NSUZXYTT*LM5072*MH-80; PowerWise: Y; CompType: MiscPower; DatasheetVersion: Oct-2007; PackageVersion: revA, Apr-2003; PackageReference: MXA16A; PackageDescription: Molded TSSOP, Jedec, Exposed Pad, 5.0 x 4.4 x 0.9mm Body,16 Lead, 0.65mm Pitch; RoHS: Y; PinCount: 16; High-Reliability: Y; Code_JEDEC: MO-153-ABT; ComponentLink1Description: Manufacturer URL; ComponentLink1URL: http://www.national.com/; ComponentLink2Description: LM5072 Datasheet; ComponentLink2URL: http://www.national.com/ds/LM/LM5072.pdf; ComponentLink3Description: LM5072 Web Page; ComponentLink3URL: http://www.national.com/pf/LM/LM5072.html; ComponentLink4Description: MXA16A Package Page; ComponentLink4URL: http://www.national.com/packaging/folders/mxa16a.html
footprint MXA16A_N (TSOP, 16-Leads, Body 5x4.4mm, Pitch 0.65mm, Thermal Pad, IPC Medium Density)
footprint MXA16A_L (TSOP, 16-Leads, Body 5x4.4mm, Pitch 0.65mm, Thermal Pad, IPC High Density)
footprint MXA16A_M (TSOP, 16-Leads, Body 5x4.4mm, Pitch 0.65mm, Thermal Pad, IPC Low Density)
pins: 1 RT (in) "PWM controller oscillator frequency programming pin.", 2 SS (in) "Soft-start programming pin.", 3 VIN (power) "Positive supply pin for the PD interface and the internal PWM controller start-up regulator.", 4 RCLASS (in) "PD classification programming pin.", 5 ICL_FAUX (in) "Inrush current limit programming pin; also the front auxiliary power enable pin.", 6 DCCL (in) "PD interface DC current limit programming pin.", 7 VEE (power) "Negative supply pin for PD interface; connected to PoE and/or front auxiliary power return path.", 8 RTN (power) "PWM controller power return.", 9 OUT (out) "PWM controller gate driver output pin.", 10 VCC (power) "PWM controller start-up regulator output pin.", 11 nPGOOD (in) "PD interface Power Good indicator and delay timer pin; active low state indicates PoE interface is in normal operation.", 12 CS (in) "PWM controller current sense input pin.", 13 RAUX (in) "Rear auxiliary power enable pin; can be programmed for auxiliary power dominance over PoE power.", 14 FB (in) "PWM controller voltage feedback pin and inverting input of the internal error amplifier.", 15 COMP (out) "Output of the internal error amplifier and control input to the PWM comparator.", 16 ARTN (power) "PWM controller reference ground pin.", 17 EP (power) "Exposed metal pad on the underside of the device."

## LM5072MHX-50
designator U?
Integrated 100V Power Over Ethernet PD Interface and PWM Controller with Aux Support, 16-pin TSSOP-EP; PartNumber: LM5072MHX-50; Manufacturer: National Semiconductor; PackageTopMarking: NSUZXYTT*LM5072*MH-50; PowerWise: Y; CompType: MiscPower; DatasheetVersion: Oct-2007; PackageVersion: revA, Apr-2003; PackageReference: MXA16A; PackageDescription: Molded TSSOP, Jedec, Exposed Pad, 5.0 x 4.4 x 0.9mm Body,16 Lead, 0.65mm Pitch; RoHS: N; PinCount: 16; High-Reliability: Y; Code_JEDEC: MO-153-ABT; ComponentLink1Description: Manufacturer URL; ComponentLink1URL: http://www.national.com/; ComponentLink2Description: LM5072 Datasheet; ComponentLink2URL: http://www.national.com/ds/LM/LM5072.pdf; ComponentLink3Description: LM5072 Web Page; ComponentLink3URL: http://www.national.com/pf/LM/LM5072.html; ComponentLink4Description: MXA16A Package Page; ComponentLink4URL: http://www.national.com/packaging/folders/mxa16a.html
footprint MXA16A_N (TSOP, 16-Leads, Body 5x4.4mm, Pitch 0.65mm, Thermal Pad, IPC Medium Density)
footprint MXA16A_L (TSOP, 16-Leads, Body 5x4.4mm, Pitch 0.65mm, Thermal Pad, IPC High Density)
footprint MXA16A_M (TSOP, 16-Leads, Body 5x4.4mm, Pitch 0.65mm, Thermal Pad, IPC Low Density)
pins: 1 RT (in) "PWM controller oscillator frequency programming pin.", 2 SS (in) "Soft-start programming pin.", 3 VIN (power) "Positive supply pin for the PD interface and the internal PWM controller start-up regulator.", 4 RCLASS (in) "PD classification programming pin.", 5 ICL_FAUX (in) "Inrush current limit programming pin; also the front auxiliary power enable pin.", 6 DCCL (in) "PD interface DC current limit programming pin.", 7 VEE (power) "Negative supply pin for PD interface; connected to PoE and/or front auxiliary power return path.", 8 RTN (power) "PWM controller power return.", 9 OUT (out) "PWM controller gate driver output pin.", 10 VCC (power) "PWM controller start-up regulator output pin.", 11 nPGOOD (in) "PD interface Power Good indicator and delay timer pin; active low state indicates PoE interface is in normal operation.", 12 CS (in) "PWM controller current sense input pin.", 13 RAUX (in) "Rear auxiliary power enable pin; can be programmed for auxiliary power dominance over PoE power.", 14 FB (in) "PWM controller voltage feedback pin and inverting input of the internal error amplifier.", 15 COMP (out) "Output of the internal error amplifier and control input to the PWM comparator.", 16 ARTN (power) "PWM controller reference ground pin.", 17 EP (power) "Exposed metal pad on the underside of the device."

## LM5073MH
designator U?
100V Power Over Ethernet PD Interface with Aux Support, 14-pin TSSOP-EP; PartNumber: LM5073MH; Manufacturer: National Semiconductor; PackageTopMarking: NSUZXYTT*LM5073*MH; PowerWise: Y; CompType: MiscPower; DatasheetVersion: Feb-2010; PackageVersion: revA, Feb-2003; PackageReference: MXA14A; PackageDescription: Molded TSSOP, JEDEC, Exposed Pad, 5.0 x 4.4 x 0.9mm Body, 14 Lead, 0.65mm Pitch; RoHS: N; PinCount: 14; High-Reliability: Y; Code_JEDEC: MO-153-ABT-1; ComponentLink1Description: Manufacturer URL; ComponentLink1URL: http://www.national.com/; ComponentLink2Description: LM5073 Datasheet; ComponentLink2URL: http://www.national.com/ds/LM/LM5073.pdf; ComponentLink3Description: LM5073 Web Page; ComponentLink3URL: http://www.national.com/pf/LM/LM5073.html; ComponentLink4Description: MXA14A Package Page; ComponentLink4URL: http://www.national.com/packaging/folders/mxa14a.html
footprint MXA14A_N (TSOP, 14-Leads, Body 5x4.4mm, Pitch 0.65mm, Thermal Pad, IPC Medium Density)
footprint MXA14A_L (TSOP, 14-Leads, Body 5x4.4mm, Pitch 0.65mm, Thermal Pad, IPC High Density)
footprint MXA14A_M (TSOP, 14-Leads, Body 5x4.4mm, Pitch 0.65mm, Thermal Pad, IPC Low Density)
pins: 1 UVLORTN (in) "Return for the external UVLO programming resistor divider.", 2 UVLO (in) "Line under-voltage lockout programming pin.", 3 VIN (power) "Positive supply pin for the PD interface and the DC-DC converter interface.", 4 RCLASS (in) "PD classification programming pin.", 5 FAUX (in) "Front auxiliary power enable pin.", 6 DCCL (in) "PD interface DC current limit programming pin.", 7 VEE (power) "Negative supply pin for PD interface; connected to PoE and/or front auxiliary power return path.", 8 NC "No internal connection.", 9 RTN (power) "DC-DC converter power return.", 10 NC "No internal connection.", 11 nPGOOD (in) "PD interface Power Good indicator and delay timer pin.", 12 nSD (oc) "Open drain, active low shut down signal to the DC-DC converter.", 13 SD (oc) "Open drain, active high shut down signal to the DC-DC converter.", 14 RAUX (in) "Rear auxiliary power enable pin, and dominant/non-dominant selection.", 15 EP (power) "Exposed metal pad on the underside of the device."

## LM5073MH/NOPB
designator U?
100V Power Over Ethernet PD Interface with Aux Support, 14-pin TSSOP-EP, Pb-Free; PartNumber: LM5073MH/NOPB; Manufacturer: National Semiconductor; PackageTopMarking: NSUZXYTT*LM5073*MH; PowerWise: Y; CompType: MiscPower; DatasheetVersion: Feb-2010; PackageVersion: revA, Feb-2003; PackageReference: MXA14A; PackageDescription: Molded TSSOP, JEDEC, Exposed Pad, 5.0 x 4.4 x 0.9mm Body, 14 Lead, 0.65mm Pitch; RoHS: Y; PinCount: 14; High-Reliability: Y; Code_JEDEC: MO-153-ABT-1; ComponentLink1Description: Manufacturer URL; ComponentLink1URL: http://www.national.com/; ComponentLink2Description: LM5073 Datasheet; ComponentLink2URL: http://www.national.com/ds/LM/LM5073.pdf; ComponentLink3Description: LM5073 Web Page; ComponentLink3URL: http://www.national.com/pf/LM/LM5073.html; ComponentLink4Description: MXA14A Package Page; ComponentLink4URL: http://www.national.com/packaging/folders/mxa14a.html
footprint MXA14A_N (TSOP, 14-Leads, Body 5x4.4mm, Pitch 0.65mm, Thermal Pad, IPC Medium Density)
footprint MXA14A_L (TSOP, 14-Leads, Body 5x4.4mm, Pitch 0.65mm, Thermal Pad, IPC High Density)
footprint MXA14A_M (TSOP, 14-Leads, Body 5x4.4mm, Pitch 0.65mm, Thermal Pad, IPC Low Density)
pins: 1 UVLORTN (in) "Return for the external UVLO programming resistor divider.", 2 UVLO (in) "Line under-voltage lockout programming pin.", 3 VIN (power) "Positive supply pin for the PD interface and the DC-DC converter interface.", 4 RCLASS (in) "PD classification programming pin.", 5 FAUX (in) "Front auxiliary power enable pin.", 6 DCCL (in) "PD interface DC current limit programming pin.", 7 VEE (power) "Negative supply pin for PD interface; connected to PoE and/or front auxiliary power return path.", 8 NC "No internal connection.", 9 RTN (power) "DC-DC converter power return.", 10 NC "No internal connection.", 11 nPGOOD (in) "PD interface Power Good indicator and delay timer pin.", 12 nSD (oc) "Open drain, active low shut down signal to the DC-DC converter.", 13 SD (oc) "Open drain, active high shut down signal to the DC-DC converter.", 14 RAUX (in) "Rear auxiliary power enable pin, and dominant/non-dominant selection.", 15 EP (power) "Exposed metal pad on the underside of the device."